# Altium schematic symbol library ERJ-1GNJ3R0C.SchLib: 1 symbol
Pins are listed as number, name and electrical type; pins without a type are passive.

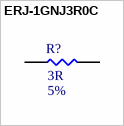
[diagram p0: symbol ERJ-1GNJ3R0C]

## ERJ-1GNJ3R0C
designator R?  Resistance: 3R  Tolerance: 5%  (hidden comment: ERJ-1GNJ3R0C)
RES SMD 3 OHM 5% 1/20W 0201; MFR: Panasonic Electronic Components; PN: ERJ-1GNJ3R0C; Footprint: RES0201; Package: 0201; ComponentLink1Description: Datasheet; Power Rating: 1/20W; Supplier 1: Mouser; Supplier Part Number 1: 667-ERJ-1GNJ3R0C
footprint RES0201 (A generic 0201 footprint)
pins: 1, 2